# Altium schematic symbol library Connector.SchLib: 9 symbols
Pins are listed as number, name and electrical type; pins without a type are passive.

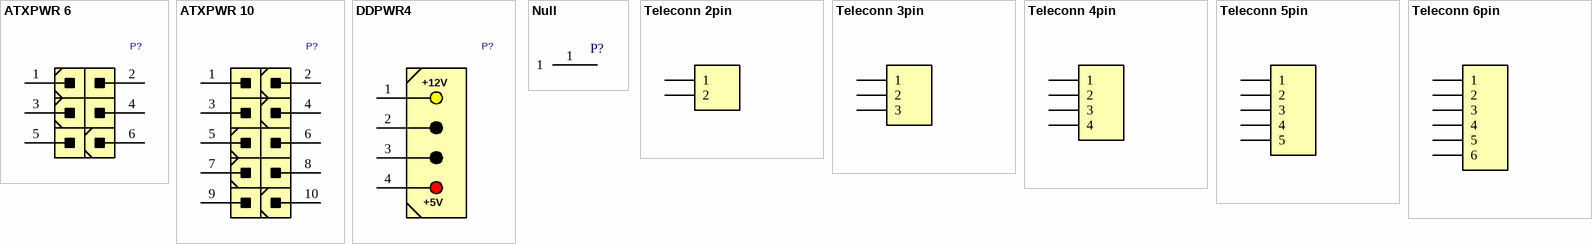
[diagram p0: symbols ATXPWR 6 to Teleconn 6pin]

## ATXPWR 6
designator P?
CONN, ATX POWER, 6 P; DatasheetVersion: 2022
pins: 1, 2, 3, 4, 5, 6

## ATXPWR 10
designator P?
CONN, ATX POWER, 10 P; DatasheetVersion: 2022
pins: 1, 2, 3, 4, 5, 6, 7, 8, 9, 10

## DDPWR4
designator P?
CONN, DP04PR IDE DISK DRIVE 4pin; DatasheetVersion: 2022
pins: 1, 2, 3, 4
text: +12V; +5V

## Null
designator P?
DatasheetVersion: 2022
pins: 1

## Teleconn 2pin
designator P?
Telecommunications; DatasheetVersion: 2022
pins: 1, 2

## Teleconn 3pin
designator P?
Telecommunications; DatasheetVersion: 2022
pins: 1, 2, 3

## Teleconn 4pin
designator P?
Telecommunications; DatasheetVersion: 2022
pins: 1, 2, 3, 4

## Teleconn 5pin
designator P?
Telecommunications; DatasheetVersion: 2022
pins: 1, 2, 3, 4, 5

## Teleconn 6pin
designator P?
Telecommunications; DatasheetVersion: 2022
pins: 1, 2, 3, 4, 5, 6